# EAGLE library part A3921 (library user_ic)
ブラシ付きモーター用ゲートドライバ フルブリッジ駆動
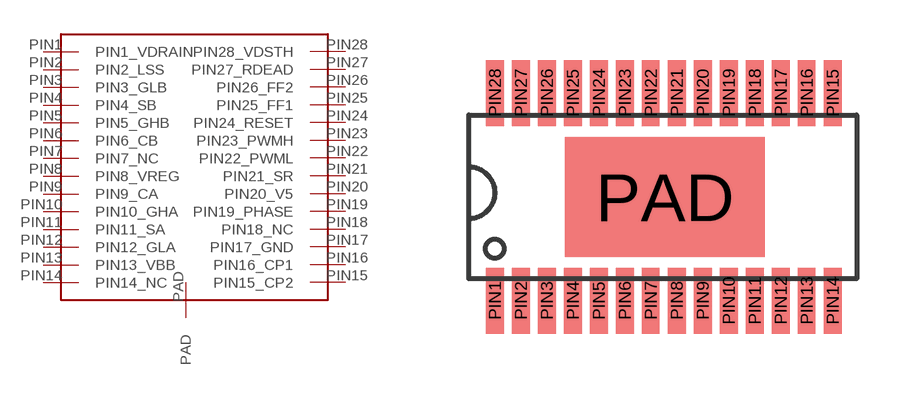
[diagram p1: symbol with the pads of TSSOP_28P_ALLEGRO; footprint TSSOP_28P_ALLEGRO]

Designator prefix -

## A3921  [TSSOP_28P_ALLEGRO]
PAD  PAD
PIN1  PIN1_VDRAIN
PIN2  PIN2_LSS
PIN3  PIN3_GLB
PIN4  PIN4_SB
PIN5  PIN5_GHB
PIN6  PIN6_CB
PIN7  PIN7_NC
PIN8  PIN8_VREG
PIN9  PIN9_CA
PIN10  PIN10_GHA
PIN11  PIN11_SA
PIN12  PIN12_GLA
PIN13  PIN13_VBB
PIN14  PIN14_NC
PIN15  PIN15_CP2
PIN16  PIN16_CP1
PIN17  PIN17_GND
PIN18  PIN18_NC
PIN19  PIN19_PHASE
PIN20  PIN20_V5
PIN21  PIN21_SR
PIN22  PIN22_PWML
PIN23  PIN23_PWMH
PIN24  PIN24_RESET
PIN25  PIN25_FF1
PIN26  PIN26_FF2
PIN27  PIN27_RDEAD
PIN28  PIN28_VDSTH

## Footprint TSSOP_28P_ALLEGRO (pad centres in mm)
アレグロのゲートドライバ系のtssop28pinのフットプリント サーマルパッドがついていることに注意
smd 5 x 3: PAD 4.906,1.942
smd 0.45 x 1.65: PIN1 0.65,-0.65; PIN2 1.3,-0.65; PIN3 1.95,-0.65; PIN4 2.6,-0.65; PIN5 3.25,-0.65; PIN6 3.9,-0.65; PIN7 4.55,-0.65; PIN8 5.2,-0.65; PIN9 5.85,-0.65; PIN10 6.5,-0.65; PIN11 7.15,-0.65; PIN12 7.8,-0.65; PIN13 8.45,-0.65; PIN14 9.1,-0.65; PIN15 9.1,4.55; PIN16 8.45,4.55; PIN17 7.8,4.55; PIN18 7.15,4.55; PIN19 6.5,4.55; PIN20 5.85,4.55; PIN21 5.2,4.55; PIN22 4.55,4.55; PIN23 3.9,4.55; PIN24 3.25,4.55; PIN25 2.6,4.55; PIN26 1.95,4.55; PIN27 1.3,4.55; PIN28 0.65,4.55